# EAGLE library part MURDOCK_STACK (library murdock)
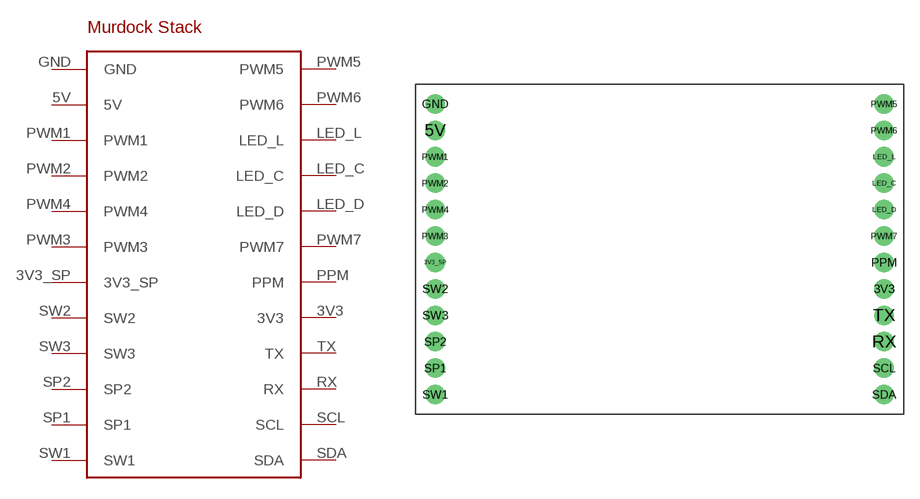
[diagram p0: symbol with the pads of MURDOCK_STACK; footprint MURDOCK_STACK]

Designator prefix X

## MURDOCK_STACK  [MURDOCK_STACK]
3V3  3V3
3V3_SP  3V3_SP
5V  5V
GND  GND
LED_C  LED_C
LED_D  LED_D
LED_L  LED_L
PPM  PPM
PWM1  PWM1
PWM2  PWM2
PWM3  PWM3
PWM4  PWM4
PWM5  PWM5
PWM6  PWM6
PWM7  PWM7
RX  RX
SCL  SCL
SDA  SDA
SP1  SP1
SP2  SP2
SW1  SW1
SW2  SW2
SW3  SW3
TX  TX

## Footprint MURDOCK_STACK (pad centres in mm)
drill 1.016 pad 1.88: 3V3 45.085,12.065; 3V3_SP 1.905,14.605; 5V 1.905,27.305; GND 1.905,29.845; LED_C 45.085,22.225; LED_D 45.085,19.685; LED_L 45.085,24.765; PPM 45.085,14.605; PWM1 1.905,24.765; PWM2 1.905,22.225; PWM3 1.905,17.145; PWM4 1.905,19.685; PWM5 45.085,29.845; PWM6 45.085,27.305; PWM7 45.085,17.145; RX 45.085,6.985; SCL 45.085,4.445; SDA 45.085,1.905; SP1 1.905,4.445; SP2 1.905,6.985; SW1 1.905,1.905; SW2 1.905,12.065; SW3 1.905,9.525; TX 45.085,9.525